# Altium footprint library Connector_Harwin.PcbLib: 102 footprints (part 6 of 7)
Each footprint in its own frame and in the unit in brackets; x right, y up, seen from the top. Pads: shape width x height; smd on the part's side, far side on the other; paste and mask are expansions set on the pad; w line width, h text height; cw(c..) or ccw(c..) is an arc to the next point about the centre after c.
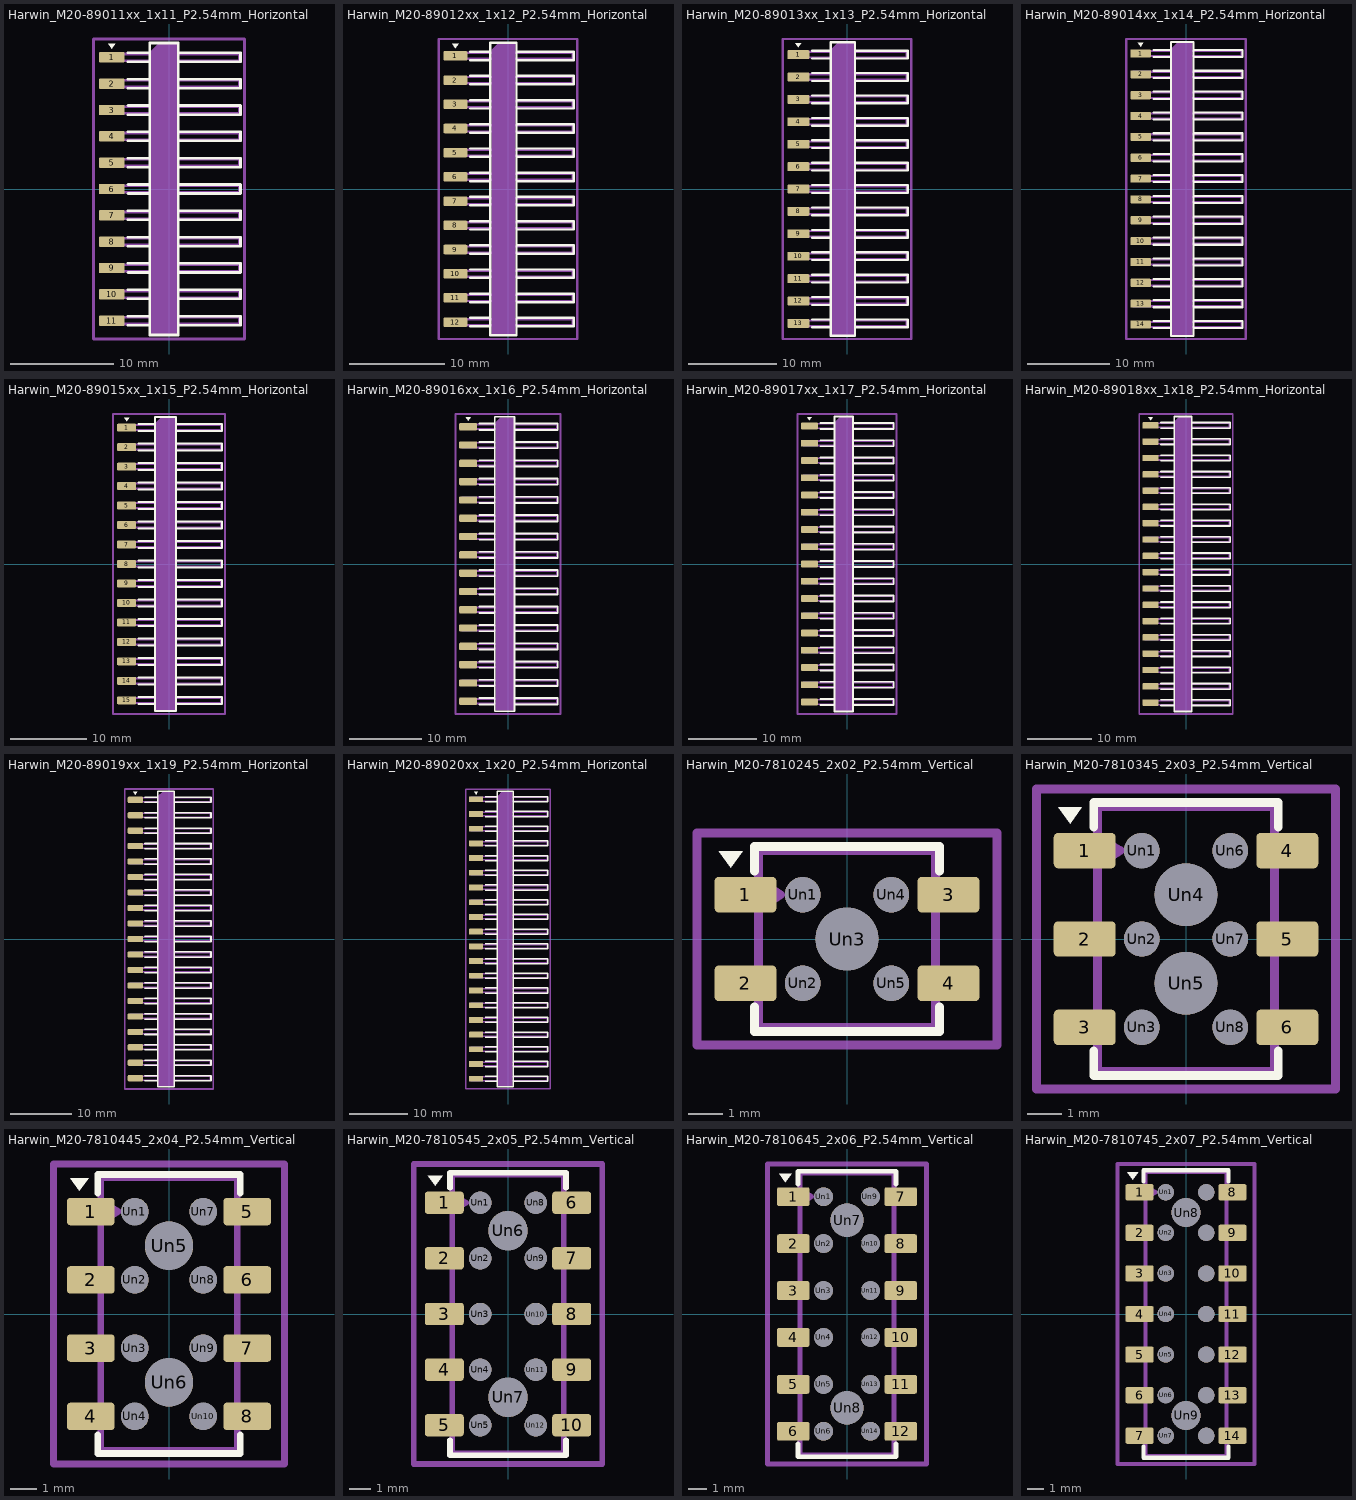
[diagram p5: the footprints below, top view; thin cyan lines are the x and y axes]

## Harwin_M20-89011xx_1x11_P2.54mm_Horizontal [mm]
pads (11):
  rrect25% 2.5x1 smd: 1(-5.525,12.7) 2(-5.525,10.16) 3(-5.525,7.62) 4(-5.525,5.08) 5(-5.525,2.54) 6(-5.525,0) 7(-5.525,-2.54) 8(-5.525,-5.08) 9(-5.525,-7.62) 10(-5.525,-10.16) 11(-5.525,-12.7)
F.SilkS:
  region: -5.525,13.52 -5.865,13.99 -5.185,13.99
  lines w0.254: -3.955,-13.14 -1.845,-13.14 ; -3.955,-12.26 -1.845,-12.26 ; -3.955,-10.6 -1.845,-10.6 ; -3.955,-9.72 -1.845,-9.72 ; -3.955,-8.06 -1.845,-8.06 ; -3.955,-7.18 -1.845,-7.18 ; -3.955,-5.52 -1.845,-5.52 ; -3.955,-4.64 -1.845,-4.64 ; -3.955,-2.98 -1.845,-2.98 ; -3.955,-2.1 -1.845,-2.1 ; -3.955,-0.44 -1.845,-0.44 ; -3.955,0.44 -1.845,0.44 ; -3.955,2.1 -1.845,2.1 ; -3.955,2.98 -1.845,2.98 ; -3.955,4.64 -1.845,4.64 ; -3.955,5.52 -1.845,5.52 ; -3.955,7.18 -1.845,7.18 ; -3.955,8.06 -1.845,8.06 ; -3.955,9.72 -1.845,9.72 ; -3.955,10.6 -1.845,10.6 ; -3.955,12.26 -1.845,12.26 ; -3.955,13.14 -1.845,13.14 ; 0.895,-13.14 6.895,-13.14 6.895,-12.26 0.895,-12.26 ; 0.895,-10.6 6.895,-10.6 6.895,-9.72 0.895,-9.72 ; 0.895,-8.06 6.895,-8.06 6.895,-7.18 0.895,-7.18 ; 0.895,-5.52 6.895,-5.52 6.895,-4.64 0.895,-4.64 ; 0.895,-2.98 6.895,-2.98 6.895,-2.1 0.895,-2.1 ; 0.895,-0.44 6.895,-0.44 6.895,0.44 0.895,0.44 ; 0.895,2.1 6.895,2.1 6.895,2.98 0.895,2.98 ; 0.895,4.64 6.895,4.64 6.895,5.52 0.895,5.52 ; 0.895,7.18 6.895,7.18 6.895,8.06 0.895,8.06 ; 0.895,9.72 6.895,9.72 6.895,10.6 0.895,10.6 ; -1.845,-14.09 0.895,-14.09 0.895,14.09 -1.845,14.09 -1.845,-14.09 ; 0.895,12.26 6.895,12.26 6.895,13.14 0.895,13.14 0.895,12.26
Top Assembly:
  region: 0.775,-13.97 -1.725,-13.97 -1.725,13.345 -1.1,13.97 0.775,13.97
  lines w0.254: -1.725,-13.02 -6.425,-13.02 -6.425,-12.38 -1.725,-12.38 ; -1.725,-10.48 -6.425,-10.48 -6.425,-9.84 -1.725,-9.84 ; -1.725,-7.94 -6.425,-7.94 -6.425,-7.3 -1.725,-7.3 ; -1.725,-5.4 -6.425,-5.4 -6.425,-4.76 -1.725,-4.76 ; -1.725,-2.86 -6.425,-2.86 -6.425,-2.22 -1.725,-2.22 ; -1.725,-0.32 -6.425,-0.32 -6.425,0.32 -1.725,0.32 ; -1.725,2.22 -6.425,2.22 -6.425,2.86 -1.725,2.86 ; -1.725,4.76 -6.425,4.76 -6.425,5.4 -1.725,5.4 ; -1.725,7.3 -6.425,7.3 -6.425,7.94 -1.725,7.94 ; -1.725,9.84 -6.425,9.84 -6.425,10.48 -1.725,10.48 ; -1.725,12.38 -6.425,12.38 -6.425,13.02 -1.725,13.02 ; 0.775,-13.02 6.775,-13.02 6.775,-12.38 0.775,-12.38 ; 0.775,-10.48 6.775,-10.48 6.775,-9.84 0.775,-9.84 ; 0.775,-7.94 6.775,-7.94 6.775,-7.3 0.775,-7.3 ; 0.775,-5.4 6.775,-5.4 6.775,-4.76 0.775,-4.76 ; 0.775,-2.86 6.775,-2.86 6.775,-2.22 0.775,-2.22 ; 0.775,-0.32 6.775,-0.32 6.775,0.32 0.775,0.32 ; 0.775,2.22 6.775,2.22 6.775,2.86 0.775,2.86 ; 0.775,4.76 6.775,4.76 6.775,5.4 0.775,5.4 ; 0.775,7.3 6.775,7.3 6.775,7.94 0.775,7.94 ; 0.775,9.84 6.775,9.84 6.775,10.48 0.775,10.48 ; 0.775,12.38 6.775,12.38 6.775,13.02 0.775,13.02
  text "'.Designator'" at 0.36,-4.047 h1
Top Courtyard:
  lines w0.254: -7.28,-14.47 7.28,-14.47 7.28,14.47 -7.28,14.47 -7.28,-14.47
Top Designator:
  text ".Designator" at -7.618,-0.508 h1.52

## Harwin_M20-89012xx_1x12_P2.54mm_Horizontal [mm]
pads (12):
  rrect25% 2.5x1 smd: 1(-5.525,13.97) 2(-5.525,11.43) 3(-5.525,8.89) 4(-5.525,6.35) 5(-5.525,3.81) 6(-5.525,1.27) 7(-5.525,-1.27) 8(-5.525,-3.81) 9(-5.525,-6.35) 10(-5.525,-8.89) 11(-5.525,-11.43) 12(-5.525,-13.97)
F.SilkS:
  region: -5.525,14.79 -5.865,15.26 -5.185,15.26
  lines w0.254: -3.955,-14.41 -1.845,-14.41 ; -3.955,-13.53 -1.845,-13.53 ; -3.955,-11.87 -1.845,-11.87 ; -3.955,-10.99 -1.845,-10.99 ; -3.955,-9.33 -1.845,-9.33 ; -3.955,-8.45 -1.845,-8.45 ; -3.955,-6.79 -1.845,-6.79 ; -3.955,-5.91 -1.845,-5.91 ; -3.955,-4.25 -1.845,-4.25 ; -3.955,-3.37 -1.845,-3.37 ; -3.955,-1.71 -1.845,-1.71 ; -3.955,-0.83 -1.845,-0.83 ; -3.955,0.83 -1.845,0.83 ; -3.955,1.71 -1.845,1.71 ; -3.955,3.37 -1.845,3.37 ; -3.955,4.25 -1.845,4.25 ; -3.955,5.91 -1.845,5.91 ; -3.955,6.79 -1.845,6.79 ; -3.955,8.45 -1.845,8.45 ; -3.955,9.33 -1.845,9.33 ; -3.955,10.99 -1.845,10.99 ; -3.955,11.87 -1.845,11.87 ; -3.955,13.53 -1.845,13.53 ; -3.955,14.41 -1.845,14.41 ; 0.895,-14.41 6.895,-14.41 6.895,-13.53 0.895,-13.53 ; 0.895,-11.87 6.895,-11.87 6.895,-10.99 0.895,-10.99 ; 0.895,-9.33 6.895,-9.33 6.895,-8.45 0.895,-8.45 ; 0.895,-6.79 6.895,-6.79 6.895,-5.91 0.895,-5.91 ; 0.895,-4.25 6.895,-4.25 6.895,-3.37 0.895,-3.37 ; 0.895,-1.71 6.895,-1.71 6.895,-0.83 0.895,-0.83 ; 0.895,0.83 6.895,0.83 6.895,1.71 0.895,1.71 ; 0.895,3.37 6.895,3.37 6.895,4.25 0.895,4.25 ; 0.895,5.91 6.895,5.91 6.895,6.79 0.895,6.79 ; 0.895,8.45 6.895,8.45 6.895,9.33 0.895,9.33 ; 0.895,10.99 6.895,10.99 6.895,11.87 0.895,11.87 ; -1.845,-15.36 0.895,-15.36 0.895,15.36 -1.845,15.36 -1.845,-15.36 ; 0.895,13.53 6.895,13.53 6.895,14.41 0.895,14.41 0.895,13.53
Top Assembly:
  region: 0.775,-15.24 -1.725,-15.24 -1.725,14.615 -1.1,15.24 0.775,15.24
  lines w0.254: -1.725,-14.29 -6.425,-14.29 -6.425,-13.65 -1.725,-13.65 ; -1.725,-11.75 -6.425,-11.75 -6.425,-11.11 -1.725,-11.11 ; -1.725,-9.21 -6.425,-9.21 -6.425,-8.57 -1.725,-8.57 ; -1.725,-6.67 -6.425,-6.67 -6.425,-6.03 -1.725,-6.03 ; -1.725,-4.13 -6.425,-4.13 -6.425,-3.49 -1.725,-3.49 ; -1.725,-1.59 -6.425,-1.59 -6.425,-0.95 -1.725,-0.95 ; -1.725,0.95 -6.425,0.95 -6.425,1.59 -1.725,1.59 ; -1.725,3.49 -6.425,3.49 -6.425,4.13 -1.725,4.13 ; -1.725,6.03 -6.425,6.03 -6.425,6.67 -1.725,6.67 ; -1.725,8.57 -6.425,8.57 -6.425,9.21 -1.725,9.21 ; -1.725,11.11 -6.425,11.11 -6.425,11.75 -1.725,11.75 ; -1.725,13.65 -6.425,13.65 -6.425,14.29 -1.725,14.29 ; 0.775,-14.29 6.775,-14.29 6.775,-13.65 0.775,-13.65 ; 0.775,-11.75 6.775,-11.75 6.775,-11.11 0.775,-11.11 ; 0.775,-9.21 6.775,-9.21 6.775,-8.57 0.775,-8.57 ; 0.775,-6.67 6.775,-6.67 6.775,-6.03 0.775,-6.03 ; 0.775,-4.13 6.775,-4.13 6.775,-3.49 0.775,-3.49 ; 0.775,-1.59 6.775,-1.59 6.775,-0.95 0.775,-0.95 ; 0.775,0.95 6.775,0.95 6.775,1.59 0.775,1.59 ; 0.775,3.49 6.775,3.49 6.775,4.13 0.775,4.13 ; 0.775,6.03 6.775,6.03 6.775,6.67 0.775,6.67 ; 0.775,8.57 6.775,8.57 6.775,9.21 0.775,9.21 ; 0.775,11.11 6.775,11.11 6.775,11.75 0.775,11.75 ; 0.775,13.65 6.775,13.65 6.775,14.29 0.775,14.29
  text "'.Designator'" at 0.36,-4.047 h1
Top Courtyard:
  lines w0.254: -7.28,-15.74 7.28,-15.74 7.28,15.74 -7.28,15.74 -7.28,-15.74
Top Designator:
  text ".Designator" at -7.618,-0.508 h1.52

## Harwin_M20-89013xx_1x13_P2.54mm_Horizontal [mm]
pads (13):
  rrect25% 2.5x1 smd: 1(-5.525,15.24) 2(-5.525,12.7) 3(-5.525,10.16) 4(-5.525,7.62) 5(-5.525,5.08) 6(-5.525,2.54) 7(-5.525,0) 8(-5.525,-2.54) 9(-5.525,-5.08) 10(-5.525,-7.62) 11(-5.525,-10.16) 12(-5.525,-12.7) 13(-5.525,-15.24)
F.SilkS:
  region: -5.525,16.06 -5.865,16.53 -5.185,16.53
  lines w0.254: -3.955,-15.68 -1.845,-15.68 ; -3.955,-14.8 -1.845,-14.8 ; -3.955,-13.14 -1.845,-13.14 ; -3.955,-12.26 -1.845,-12.26 ; -3.955,-10.6 -1.845,-10.6 ; -3.955,-9.72 -1.845,-9.72 ; -3.955,-8.06 -1.845,-8.06 ; -3.955,-7.18 -1.845,-7.18 ; -3.955,-5.52 -1.845,-5.52 ; -3.955,-4.64 -1.845,-4.64 ; -3.955,-2.98 -1.845,-2.98 ; -3.955,-2.1 -1.845,-2.1 ; -3.955,-0.44 -1.845,-0.44 ; -3.955,0.44 -1.845,0.44 ; -3.955,2.1 -1.845,2.1 ; -3.955,2.98 -1.845,2.98 ; -3.955,4.64 -1.845,4.64 ; -3.955,5.52 -1.845,5.52 ; -3.955,7.18 -1.845,7.18 ; -3.955,8.06 -1.845,8.06 ; -3.955,9.72 -1.845,9.72 ; -3.955,10.6 -1.845,10.6 ; -3.955,12.26 -1.845,12.26 ; -3.955,13.14 -1.845,13.14 ; -3.955,14.8 -1.845,14.8 ; -3.955,15.68 -1.845,15.68 ; 0.895,-15.68 6.895,-15.68 6.895,-14.8 0.895,-14.8 ; 0.895,-13.14 6.895,-13.14 6.895,-12.26 0.895,-12.26 ; 0.895,-10.6 6.895,-10.6 6.895,-9.72 0.895,-9.72 ; 0.895,-8.06 6.895,-8.06 6.895,-7.18 0.895,-7.18 ; 0.895,-5.52 6.895,-5.52 6.895,-4.64 0.895,-4.64 ; 0.895,-2.98 6.895,-2.98 6.895,-2.1 0.895,-2.1 ; 0.895,-0.44 6.895,-0.44 6.895,0.44 0.895,0.44 ; 0.895,2.1 6.895,2.1 6.895,2.98 0.895,2.98 ; 0.895,4.64 6.895,4.64 6.895,5.52 0.895,5.52 ; 0.895,7.18 6.895,7.18 6.895,8.06 0.895,8.06 ; 0.895,9.72 6.895,9.72 6.895,10.6 0.895,10.6 ; 0.895,12.26 6.895,12.26 6.895,13.14 0.895,13.14 ; -1.845,-16.63 0.895,-16.63 0.895,16.63 -1.845,16.63 -1.845,-16.63 ; 0.895,14.8 6.895,14.8 6.895,15.68 0.895,15.68 0.895,14.8
Top Assembly:
  region: 0.775,-16.51 -1.725,-16.51 -1.725,15.885 -1.1,16.51 0.775,16.51
  lines w0.254: -1.725,-15.56 -6.425,-15.56 -6.425,-14.92 -1.725,-14.92 ; -1.725,-13.02 -6.425,-13.02 -6.425,-12.38 -1.725,-12.38 ; -1.725,-10.48 -6.425,-10.48 -6.425,-9.84 -1.725,-9.84 ; -1.725,-7.94 -6.425,-7.94 -6.425,-7.3 -1.725,-7.3 ; -1.725,-5.4 -6.425,-5.4 -6.425,-4.76 -1.725,-4.76 ; -1.725,-2.86 -6.425,-2.86 -6.425,-2.22 -1.725,-2.22 ; -1.725,-0.32 -6.425,-0.32 -6.425,0.32 -1.725,0.32 ; -1.725,2.22 -6.425,2.22 -6.425,2.86 -1.725,2.86 ; -1.725,4.76 -6.425,4.76 -6.425,5.4 -1.725,5.4 ; -1.725,7.3 -6.425,7.3 -6.425,7.94 -1.725,7.94 ; -1.725,9.84 -6.425,9.84 -6.425,10.48 -1.725,10.48 ; -1.725,12.38 -6.425,12.38 -6.425,13.02 -1.725,13.02 ; -1.725,14.92 -6.425,14.92 -6.425,15.56 -1.725,15.56 ; 0.775,-15.56 6.775,-15.56 6.775,-14.92 0.775,-14.92 ; 0.775,-13.02 6.775,-13.02 6.775,-12.38 0.775,-12.38 ; 0.775,-10.48 6.775,-10.48 6.775,-9.84 0.775,-9.84 ; 0.775,-7.94 6.775,-7.94 6.775,-7.3 0.775,-7.3 ; 0.775,-5.4 6.775,-5.4 6.775,-4.76 0.775,-4.76 ; 0.775,-2.86 6.775,-2.86 6.775,-2.22 0.775,-2.22 ; 0.775,-0.32 6.775,-0.32 6.775,0.32 0.775,0.32 ; 0.775,2.22 6.775,2.22 6.775,2.86 0.775,2.86 ; 0.775,4.76 6.775,4.76 6.775,5.4 0.775,5.4 ; 0.775,7.3 6.775,7.3 6.775,7.94 0.775,7.94 ; 0.775,9.84 6.775,9.84 6.775,10.48 0.775,10.48 ; 0.775,12.38 6.775,12.38 6.775,13.02 0.775,13.02 ; 0.775,14.92 6.775,14.92 6.775,15.56 0.775,15.56
  text "'.Designator'" at 0.36,-4.047 h1
Top Courtyard:
  lines w0.254: -7.28,-17.01 7.28,-17.01 7.28,17.01 -7.28,17.01 -7.28,-17.01
Top Designator:
  text ".Designator" at -7.618,-0.508 h1.52

## Harwin_M20-89014xx_1x14_P2.54mm_Horizontal [mm]
pads (14):
  rrect25% 2.5x1 smd: 1(-5.525,16.51) 2(-5.525,13.97) 3(-5.525,11.43) 4(-5.525,8.89) 5(-5.525,6.35) 6(-5.525,3.81) 7(-5.525,1.27) 8(-5.525,-1.27) 9(-5.525,-3.81) 10(-5.525,-6.35) 11(-5.525,-8.89) 12(-5.525,-11.43) 13(-5.525,-13.97) 14(-5.525,-16.51)
F.SilkS:
  region: -5.525,17.33 -5.865,17.8 -5.185,17.8
  lines w0.254: -3.955,-16.95 -1.845,-16.95 ; -3.955,-16.07 -1.845,-16.07 ; -3.955,-14.41 -1.845,-14.41 ; -3.955,-13.53 -1.845,-13.53 ; -3.955,-11.87 -1.845,-11.87 ; -3.955,-10.99 -1.845,-10.99 ; -3.955,-9.33 -1.845,-9.33 ; -3.955,-8.45 -1.845,-8.45 ; -3.955,-6.79 -1.845,-6.79 ; -3.955,-5.91 -1.845,-5.91 ; -3.955,-4.25 -1.845,-4.25 ; -3.955,-3.37 -1.845,-3.37 ; -3.955,-1.71 -1.845,-1.71 ; -3.955,-0.83 -1.845,-0.83 ; -3.955,0.83 -1.845,0.83 ; -3.955,1.71 -1.845,1.71 ; -3.955,3.37 -1.845,3.37 ; -3.955,4.25 -1.845,4.25 ; -3.955,5.91 -1.845,5.91 ; -3.955,6.79 -1.845,6.79 ; -3.955,8.45 -1.845,8.45 ; -3.955,9.33 -1.845,9.33 ; -3.955,10.99 -1.845,10.99 ; -3.955,11.87 -1.845,11.87 ; -3.955,13.53 -1.845,13.53 ; -3.955,14.41 -1.845,14.41 ; -3.955,16.07 -1.845,16.07 ; -3.955,16.95 -1.845,16.95 ; 0.895,-16.95 6.895,-16.95 6.895,-16.07 0.895,-16.07 ; 0.895,-14.41 6.895,-14.41 6.895,-13.53 0.895,-13.53 ; 0.895,-11.87 6.895,-11.87 6.895,-10.99 0.895,-10.99 ; 0.895,-9.33 6.895,-9.33 6.895,-8.45 0.895,-8.45 ; 0.895,-6.79 6.895,-6.79 6.895,-5.91 0.895,-5.91 ; 0.895,-4.25 6.895,-4.25 6.895,-3.37 0.895,-3.37 ; 0.895,-1.71 6.895,-1.71 6.895,-0.83 0.895,-0.83 ; 0.895,0.83 6.895,0.83 6.895,1.71 0.895,1.71 ; 0.895,3.37 6.895,3.37 6.895,4.25 0.895,4.25 ; 0.895,5.91 6.895,5.91 6.895,6.79 0.895,6.79 ; 0.895,8.45 6.895,8.45 6.895,9.33 0.895,9.33 ; 0.895,10.99 6.895,10.99 6.895,11.87 0.895,11.87 ; 0.895,13.53 6.895,13.53 6.895,14.41 0.895,14.41 ; -1.845,-17.9 0.895,-17.9 0.895,17.9 -1.845,17.9 -1.845,-17.9 ; 0.895,16.07 6.895,16.07 6.895,16.95 0.895,16.95 0.895,16.07
Top Assembly:
  region: 0.775,-17.78 -1.725,-17.78 -1.725,17.155 -1.1,17.78 0.775,17.78
  lines w0.254: -1.725,-16.83 -6.425,-16.83 -6.425,-16.19 -1.725,-16.19 ; -1.725,-14.29 -6.425,-14.29 -6.425,-13.65 -1.725,-13.65 ; -1.725,-11.75 -6.425,-11.75 -6.425,-11.11 -1.725,-11.11 ; -1.725,-9.21 -6.425,-9.21 -6.425,-8.57 -1.725,-8.57 ; -1.725,-6.67 -6.425,-6.67 -6.425,-6.03 -1.725,-6.03 ; -1.725,-4.13 -6.425,-4.13 -6.425,-3.49 -1.725,-3.49 ; -1.725,-1.59 -6.425,-1.59 -6.425,-0.95 -1.725,-0.95 ; -1.725,0.95 -6.425,0.95 -6.425,1.59 -1.725,1.59 ; -1.725,3.49 -6.425,3.49 -6.425,4.13 -1.725,4.13 ; -1.725,6.03 -6.425,6.03 -6.425,6.67 -1.725,6.67 ; -1.725,8.57 -6.425,8.57 -6.425,9.21 -1.725,9.21 ; -1.725,11.11 -6.425,11.11 -6.425,11.75 -1.725,11.75 ; -1.725,13.65 -6.425,13.65 -6.425,14.29 -1.725,14.29 ; -1.725,16.19 -6.425,16.19 -6.425,16.83 -1.725,16.83 ; 0.775,-16.83 6.775,-16.83 6.775,-16.19 0.775,-16.19 ; 0.775,-14.29 6.775,-14.29 6.775,-13.65 0.775,-13.65 ; 0.775,-11.75 6.775,-11.75 6.775,-11.11 0.775,-11.11 ; 0.775,-9.21 6.775,-9.21 6.775,-8.57 0.775,-8.57 ; 0.775,-6.67 6.775,-6.67 6.775,-6.03 0.775,-6.03 ; 0.775,-4.13 6.775,-4.13 6.775,-3.49 0.775,-3.49 ; 0.775,-1.59 6.775,-1.59 6.775,-0.95 0.775,-0.95 ; 0.775,0.95 6.775,0.95 6.775,1.59 0.775,1.59 ; 0.775,3.49 6.775,3.49 6.775,4.13 0.775,4.13 ; 0.775,6.03 6.775,6.03 6.775,6.67 0.775,6.67 ; 0.775,8.57 6.775,8.57 6.775,9.21 0.775,9.21 ; 0.775,11.11 6.775,11.11 6.775,11.75 0.775,11.75 ; 0.775,13.65 6.775,13.65 6.775,14.29 0.775,14.29 ; 0.775,16.19 6.775,16.19 6.775,16.83 0.775,16.83
  text "'.Designator'" at 0.36,-4.047 h1
Top Courtyard:
  lines w0.254: -7.28,-18.28 7.28,-18.28 7.28,18.28 -7.28,18.28 -7.28,-18.28
Top Designator:
  text ".Designator" at -7.618,-0.508 h1.52

## Harwin_M20-89015xx_1x15_P2.54mm_Horizontal [mm]
pads (15):
  rrect25% 2.5x1 smd: 1(-5.525,17.78) 2(-5.525,15.24) 3(-5.525,12.7) 4(-5.525,10.16) 5(-5.525,7.62) 6(-5.525,5.08) 7(-5.525,2.54) 8(-5.525,0) 9(-5.525,-2.54) 10(-5.525,-5.08) 11(-5.525,-7.62) 12(-5.525,-10.16) 13(-5.525,-12.7) 14(-5.525,-15.24) 15(-5.525,-17.78)
F.SilkS:
  region: -5.525,18.6 -5.865,19.07 -5.185,19.07
  lines w0.254: -3.955,-18.22 -1.845,-18.22 ; -3.955,-17.34 -1.845,-17.34 ; -3.955,-15.68 -1.845,-15.68 ; -3.955,-14.8 -1.845,-14.8 ; -3.955,-13.14 -1.845,-13.14 ; -3.955,-12.26 -1.845,-12.26 ; -3.955,-10.6 -1.845,-10.6 ; -3.955,-9.72 -1.845,-9.72 ; -3.955,-8.06 -1.845,-8.06 ; -3.955,-7.18 -1.845,-7.18 ; -3.955,-5.52 -1.845,-5.52 ; -3.955,-4.64 -1.845,-4.64 ; -3.955,-2.98 -1.845,-2.98 ; -3.955,-2.1 -1.845,-2.1 ; -3.955,-0.44 -1.845,-0.44 ; -3.955,0.44 -1.845,0.44 ; -3.955,2.1 -1.845,2.1 ; -3.955,2.98 -1.845,2.98 ; -3.955,4.64 -1.845,4.64 ; -3.955,5.52 -1.845,5.52 ; -3.955,7.18 -1.845,7.18 ; -3.955,8.06 -1.845,8.06 ; -3.955,9.72 -1.845,9.72 ; -3.955,10.6 -1.845,10.6 ; -3.955,12.26 -1.845,12.26 ; -3.955,13.14 -1.845,13.14 ; -3.955,14.8 -1.845,14.8 ; -3.955,15.68 -1.845,15.68 ; -3.955,17.34 -1.845,17.34 ; -3.955,18.22 -1.845,18.22 ; 0.895,-18.22 6.895,-18.22 6.895,-17.34 0.895,-17.34 ; 0.895,-15.68 6.895,-15.68 6.895,-14.8 0.895,-14.8 ; 0.895,-13.14 6.895,-13.14 6.895,-12.26 0.895,-12.26 ; 0.895,-10.6 6.895,-10.6 6.895,-9.72 0.895,-9.72 ; 0.895,-8.06 6.895,-8.06 6.895,-7.18 0.895,-7.18 ; 0.895,-5.52 6.895,-5.52 6.895,-4.64 0.895,-4.64 ; 0.895,-2.98 6.895,-2.98 6.895,-2.1 0.895,-2.1 ; 0.895,-0.44 6.895,-0.44 6.895,0.44 0.895,0.44 ; 0.895,2.1 6.895,2.1 6.895,2.98 0.895,2.98 ; 0.895,4.64 6.895,4.64 6.895,5.52 0.895,5.52 ; 0.895,7.18 6.895,7.18 6.895,8.06 0.895,8.06 ; 0.895,9.72 6.895,9.72 6.895,10.6 0.895,10.6 ; 0.895,12.26 6.895,12.26 6.895,13.14 0.895,13.14 ; 0.895,14.8 6.895,14.8 6.895,15.68 0.895,15.68 ; -1.845,-19.17 0.895,-19.17 0.895,19.17 -1.845,19.17 -1.845,-19.17 ; 0.895,17.34 6.895,17.34 6.895,18.22 0.895,18.22 0.895,17.34
Top Assembly:
  region: 0.775,-19.05 -1.725,-19.05 -1.725,18.425 -1.1,19.05 0.775,19.05
  lines w0.254: -1.725,-18.1 -6.425,-18.1 -6.425,-17.46 -1.725,-17.46 ; -1.725,-15.56 -6.425,-15.56 -6.425,-14.92 -1.725,-14.92 ; -1.725,-13.02 -6.425,-13.02 -6.425,-12.38 -1.725,-12.38 ; -1.725,-10.48 -6.425,-10.48 -6.425,-9.84 -1.725,-9.84 ; -1.725,-7.94 -6.425,-7.94 -6.425,-7.3 -1.725,-7.3 ; -1.725,-5.4 -6.425,-5.4 -6.425,-4.76 -1.725,-4.76 ; -1.725,-2.86 -6.425,-2.86 -6.425,-2.22 -1.725,-2.22 ; -1.725,-0.32 -6.425,-0.32 -6.425,0.32 -1.725,0.32 ; -1.725,2.22 -6.425,2.22 -6.425,2.86 -1.725,2.86 ; -1.725,4.76 -6.425,4.76 -6.425,5.4 -1.725,5.4 ; -1.725,7.3 -6.425,7.3 -6.425,7.94 -1.725,7.94 ; -1.725,9.84 -6.425,9.84 -6.425,10.48 -1.725,10.48 ; -1.725,12.38 -6.425,12.38 -6.425,13.02 -1.725,13.02 ; -1.725,14.92 -6.425,14.92 -6.425,15.56 -1.725,15.56 ; -1.725,17.46 -6.425,17.46 -6.425,18.1 -1.725,18.1 ; 0.775,-18.1 6.775,-18.1 6.775,-17.46 0.775,-17.46 ; 0.775,-15.56 6.775,-15.56 6.775,-14.92 0.775,-14.92 ; 0.775,-13.02 6.775,-13.02 6.775,-12.38 0.775,-12.38 ; 0.775,-10.48 6.775,-10.48 6.775,-9.84 0.775,-9.84 ; 0.775,-7.94 6.775,-7.94 6.775,-7.3 0.775,-7.3 ; 0.775,-5.4 6.775,-5.4 6.775,-4.76 0.775,-4.76 ; 0.775,-2.86 6.775,-2.86 6.775,-2.22 0.775,-2.22 ; 0.775,-0.32 6.775,-0.32 6.775,0.32 0.775,0.32 ; 0.775,2.22 6.775,2.22 6.775,2.86 0.775,2.86 ; 0.775,4.76 6.775,4.76 6.775,5.4 0.775,5.4 ; 0.775,7.3 6.775,7.3 6.775,7.94 0.775,7.94 ; 0.775,9.84 6.775,9.84 6.775,10.48 0.775,10.48 ; 0.775,12.38 6.775,12.38 6.775,13.02 0.775,13.02 ; 0.775,14.92 6.775,14.92 6.775,15.56 0.775,15.56 ; 0.775,17.46 6.775,17.46 6.775,18.1 0.775,18.1
  text "'.Designator'" at 0.36,-4.047 h1
Top Courtyard:
  lines w0.254: -7.28,-19.55 7.28,-19.55 7.28,19.55 -7.28,19.55 -7.28,-19.55
Top Designator:
  text ".Designator" at -7.618,-0.508 h1.52

## Harwin_M20-89016xx_1x16_P2.54mm_Horizontal [mm]
pads (16):
  rrect25% 2.5x1 smd: 1(-5.525,19.05) 2(-5.525,16.51) 3(-5.525,13.97) 4(-5.525,11.43) 5(-5.525,8.89) 6(-5.525,6.35) 7(-5.525,3.81) 8(-5.525,1.27) 9(-5.525,-1.27) 10(-5.525,-3.81) 11(-5.525,-6.35) 12(-5.525,-8.89) 13(-5.525,-11.43) 14(-5.525,-13.97) 15(-5.525,-16.51) 16(-5.525,-19.05)
F.SilkS:
  region: -5.525,19.87 -5.865,20.34 -5.185,20.34
  lines w0.254: -3.955,-19.49 -1.845,-19.49 ; -3.955,-18.61 -1.845,-18.61 ; -3.955,-16.95 -1.845,-16.95 ; -3.955,-16.07 -1.845,-16.07 ; -3.955,-14.41 -1.845,-14.41 ; -3.955,-13.53 -1.845,-13.53 ; -3.955,-11.87 -1.845,-11.87 ; -3.955,-10.99 -1.845,-10.99 ; -3.955,-9.33 -1.845,-9.33 ; -3.955,-8.45 -1.845,-8.45 ; -3.955,-6.79 -1.845,-6.79 ; -3.955,-5.91 -1.845,-5.91 ; -3.955,-4.25 -1.845,-4.25 ; -3.955,-3.37 -1.845,-3.37 ; -3.955,-1.71 -1.845,-1.71 ; -3.955,-0.83 -1.845,-0.83 ; -3.955,0.83 -1.845,0.83 ; -3.955,1.71 -1.845,1.71 ; -3.955,3.37 -1.845,3.37 ; -3.955,4.25 -1.845,4.25 ; -3.955,5.91 -1.845,5.91 ; -3.955,6.79 -1.845,6.79 ; -3.955,8.45 -1.845,8.45 ; -3.955,9.33 -1.845,9.33 ; -3.955,10.99 -1.845,10.99 ; -3.955,11.87 -1.845,11.87 ; -3.955,13.53 -1.845,13.53 ; -3.955,14.41 -1.845,14.41 ; -3.955,16.07 -1.845,16.07 ; -3.955,16.95 -1.845,16.95 ; -3.955,18.61 -1.845,18.61 ; -3.955,19.49 -1.845,19.49 ; 0.895,-19.49 6.895,-19.49 6.895,-18.61 0.895,-18.61 ; 0.895,-16.95 6.895,-16.95 6.895,-16.07 0.895,-16.07 ; 0.895,-14.41 6.895,-14.41 6.895,-13.53 0.895,-13.53 ; 0.895,-11.87 6.895,-11.87 6.895,-10.99 0.895,-10.99 ; 0.895,-9.33 6.895,-9.33 6.895,-8.45 0.895,-8.45 ; 0.895,-6.79 6.895,-6.79 6.895,-5.91 0.895,-5.91 ; 0.895,-4.25 6.895,-4.25 6.895,-3.37 0.895,-3.37 ; 0.895,-1.71 6.895,-1.71 6.895,-0.83 0.895,-0.83 ; 0.895,0.83 6.895,0.83 6.895,1.71 0.895,1.71 ; 0.895,3.37 6.895,3.37 6.895,4.25 0.895,4.25 ; 0.895,5.91 6.895,5.91 6.895,6.79 0.895,6.79 ; 0.895,8.45 6.895,8.45 6.895,9.33 0.895,9.33 ; 0.895,10.99 6.895,10.99 6.895,11.87 0.895,11.87 ; 0.895,13.53 6.895,13.53 6.895,14.41 0.895,14.41 ; 0.895,16.07 6.895,16.07 6.895,16.95 0.895,16.95 ; -1.845,-20.44 0.895,-20.44 0.895,20.44 -1.845,20.44 -1.845,-20.44 ; 0.895,18.61 6.895,18.61 6.895,19.49 0.895,19.49 0.895,18.61
Top Assembly:
  region: 0.775,-20.32 -1.725,-20.32 -1.725,19.695 -1.1,20.32 0.775,20.32
  lines w0.254: -1.725,-19.37 -6.425,-19.37 -6.425,-18.73 -1.725,-18.73 ; -1.725,-16.83 -6.425,-16.83 -6.425,-16.19 -1.725,-16.19 ; -1.725,-14.29 -6.425,-14.29 -6.425,-13.65 -1.725,-13.65 ; -1.725,-11.75 -6.425,-11.75 -6.425,-11.11 -1.725,-11.11 ; -1.725,-9.21 -6.425,-9.21 -6.425,-8.57 -1.725,-8.57 ; -1.725,-6.67 -6.425,-6.67 -6.425,-6.03 -1.725,-6.03 ; -1.725,-4.13 -6.425,-4.13 -6.425,-3.49 -1.725,-3.49 ; -1.725,-1.59 -6.425,-1.59 -6.425,-0.95 -1.725,-0.95 ; -1.725,0.95 -6.425,0.95 -6.425,1.59 -1.725,1.59 ; -1.725,3.49 -6.425,3.49 -6.425,4.13 -1.725,4.13 ; -1.725,6.03 -6.425,6.03 -6.425,6.67 -1.725,6.67 ; -1.725,8.57 -6.425,8.57 -6.425,9.21 -1.725,9.21 ; -1.725,11.11 -6.425,11.11 -6.425,11.75 -1.725,11.75 ; -1.725,13.65 -6.425,13.65 -6.425,14.29 -1.725,14.29 ; -1.725,16.19 -6.425,16.19 -6.425,16.83 -1.725,16.83 ; -1.725,18.73 -6.425,18.73 -6.425,19.37 -1.725,19.37 ; 0.775,-19.37 6.775,-19.37 6.775,-18.73 0.775,-18.73 ; 0.775,-16.83 6.775,-16.83 6.775,-16.19 0.775,-16.19 ; 0.775,-14.29 6.775,-14.29 6.775,-13.65 0.775,-13.65 ; 0.775,-11.75 6.775,-11.75 6.775,-11.11 0.775,-11.11 ; 0.775,-9.21 6.775,-9.21 6.775,-8.57 0.775,-8.57 ; 0.775,-6.67 6.775,-6.67 6.775,-6.03 0.775,-6.03 ; 0.775,-4.13 6.775,-4.13 6.775,-3.49 0.775,-3.49 ; 0.775,-1.59 6.775,-1.59 6.775,-0.95 0.775,-0.95 ; 0.775,0.95 6.775,0.95 6.775,1.59 0.775,1.59 ; 0.775,3.49 6.775,3.49 6.775,4.13 0.775,4.13 ; 0.775,6.03 6.775,6.03 6.775,6.67 0.775,6.67 ; 0.775,8.57 6.775,8.57 6.775,9.21 0.775,9.21 ; 0.775,11.11 6.775,11.11 6.775,11.75 0.775,11.75 ; 0.775,13.65 6.775,13.65 6.775,14.29 0.775,14.29 ; 0.775,16.19 6.775,16.19 6.775,16.83 0.775,16.83 ; 0.775,18.73 6.775,18.73 6.775,19.37 0.775,19.37
  text "'.Designator'" at 0.36,-4.047 h1
Top Courtyard:
  lines w0.254: -7.28,-20.82 7.28,-20.82 7.28,20.82 -7.28,20.82 -7.28,-20.82
Top Designator:
  text ".Designator" at -7.618,-0.508 h1.52

## Harwin_M20-89017xx_1x17_P2.54mm_Horizontal [mm]
pads (17):
  rrect25% 2.5x1 smd: 1(-5.525,20.32) 2(-5.525,17.78) 3(-5.525,15.24) 4(-5.525,12.7) 5(-5.525,10.16) 6(-5.525,7.62) 7(-5.525,5.08) 8(-5.525,2.54) 9(-5.525,0) 10(-5.525,-2.54) 11(-5.525,-5.08) 12(-5.525,-7.62) 13(-5.525,-10.16) 14(-5.525,-12.7) 15(-5.525,-15.24) 16(-5.525,-17.78) 17(-5.525,-20.32)
F.SilkS:
  region: -5.525,21.14 -5.865,21.61 -5.185,21.61
  lines w0.254: -3.955,-20.76 -1.845,-20.76 ; -3.955,-19.88 -1.845,-19.88 ; -3.955,-18.22 -1.845,-18.22 ; -3.955,-17.34 -1.845,-17.34 ; -3.955,-15.68 -1.845,-15.68 ; -3.955,-14.8 -1.845,-14.8 ; -3.955,-13.14 -1.845,-13.14 ; -3.955,-12.26 -1.845,-12.26 ; -3.955,-10.6 -1.845,-10.6 ; -3.955,-9.72 -1.845,-9.72 ; -3.955,-8.06 -1.845,-8.06 ; -3.955,-7.18 -1.845,-7.18 ; -3.955,-5.52 -1.845,-5.52 ; -3.955,-4.64 -1.845,-4.64 ; -3.955,-2.98 -1.845,-2.98 ; -3.955,-2.1 -1.845,-2.1 ; -3.955,-0.44 -1.845,-0.44 ; -3.955,0.44 -1.845,0.44 ; -3.955,2.1 -1.845,2.1 ; -3.955,2.98 -1.845,2.98 ; -3.955,4.64 -1.845,4.64 ; -3.955,5.52 -1.845,5.52 ; -3.955,7.18 -1.845,7.18 ; -3.955,8.06 -1.845,8.06 ; -3.955,9.72 -1.845,9.72 ; -3.955,10.6 -1.845,10.6 ; -3.955,12.26 -1.845,12.26 ; -3.955,13.14 -1.845,13.14 ; -3.955,14.8 -1.845,14.8 ; -3.955,15.68 -1.845,15.68 ; -3.955,17.34 -1.845,17.34 ; -3.955,18.22 -1.845,18.22 ; -3.955,19.88 -1.845,19.88 ; -3.955,20.76 -1.845,20.76 ; 0.895,-20.76 6.895,-20.76 6.895,-19.88 0.895,-19.88 ; 0.895,-18.22 6.895,-18.22 6.895,-17.34 0.895,-17.34 ; 0.895,-15.68 6.895,-15.68 6.895,-14.8 0.895,-14.8 ; 0.895,-13.14 6.895,-13.14 6.895,-12.26 0.895,-12.26 ; 0.895,-10.6 6.895,-10.6 6.895,-9.72 0.895,-9.72 ; 0.895,-8.06 6.895,-8.06 6.895,-7.18 0.895,-7.18 ; 0.895,-5.52 6.895,-5.52 6.895,-4.64 0.895,-4.64 ; 0.895,-2.98 6.895,-2.98 6.895,-2.1 0.895,-2.1 ; 0.895,-0.44 6.895,-0.44 6.895,0.44 0.895,0.44 ; 0.895,2.1 6.895,2.1 6.895,2.98 0.895,2.98 ; 0.895,4.64 6.895,4.64 6.895,5.52 0.895,5.52 ; 0.895,7.18 6.895,7.18 6.895,8.06 0.895,8.06 ; 0.895,9.72 6.895,9.72 6.895,10.6 0.895,10.6 ; 0.895,12.26 6.895,12.26 6.895,13.14 0.895,13.14 ; 0.895,14.8 6.895,14.8 6.895,15.68 0.895,15.68 ; 0.895,17.34 6.895,17.34 6.895,18.22 0.895,18.22 ; -1.845,-21.71 0.895,-21.71 0.895,21.71 -1.845,21.71 -1.845,-21.71 ; 0.895,19.88 6.895,19.88 6.895,20.76 0.895,20.76 0.895,19.88
Top Assembly:
  region: 0.775,-21.59 -1.725,-21.59 -1.725,20.965 -1.1,21.59 0.775,21.59
  lines w0.254: -1.725,-20.64 -6.425,-20.64 -6.425,-20 -1.725,-20 ; -1.725,-18.1 -6.425,-18.1 -6.425,-17.46 -1.725,-17.46 ; -1.725,-15.56 -6.425,-15.56 -6.425,-14.92 -1.725,-14.92 ; -1.725,-13.02 -6.425,-13.02 -6.425,-12.38 -1.725,-12.38 ; -1.725,-10.48 -6.425,-10.48 -6.425,-9.84 -1.725,-9.84 ; -1.725,-7.94 -6.425,-7.94 -6.425,-7.3 -1.725,-7.3 ; -1.725,-5.4 -6.425,-5.4 -6.425,-4.76 -1.725,-4.76 ; -1.725,-2.86 -6.425,-2.86 -6.425,-2.22 -1.725,-2.22 ; -1.725,-0.32 -6.425,-0.32 -6.425,0.32 -1.725,0.32 ; -1.725,2.22 -6.425,2.22 -6.425,2.86 -1.725,2.86 ; -1.725,4.76 -6.425,4.76 -6.425,5.4 -1.725,5.4 ; -1.725,7.3 -6.425,7.3 -6.425,7.94 -1.725,7.94 ; -1.725,9.84 -6.425,9.84 -6.425,10.48 -1.725,10.48 ; -1.725,12.38 -6.425,12.38 -6.425,13.02 -1.725,13.02 ; -1.725,14.92 -6.425,14.92 -6.425,15.56 -1.725,15.56 ; -1.725,17.46 -6.425,17.46 -6.425,18.1 -1.725,18.1 ; -1.725,20 -6.425,20 -6.425,20.64 -1.725,20.64 ; 0.775,-20.64 6.775,-20.64 6.775,-20 0.775,-20 ; 0.775,-18.1 6.775,-18.1 6.775,-17.46 0.775,-17.46 ; 0.775,-15.56 6.775,-15.56 6.775,-14.92 0.775,-14.92 ; 0.775,-13.02 6.775,-13.02 6.775,-12.38 0.775,-12.38 ; 0.775,-10.48 6.775,-10.48 6.775,-9.84 0.775,-9.84 ; 0.775,-7.94 6.775,-7.94 6.775,-7.3 0.775,-7.3 ; 0.775,-5.4 6.775,-5.4 6.775,-4.76 0.775,-4.76 ; 0.775,-2.86 6.775,-2.86 6.775,-2.22 0.775,-2.22 ; 0.775,-0.32 6.775,-0.32 6.775,0.32 0.775,0.32 ; 0.775,2.22 6.775,2.22 6.775,2.86 0.775,2.86 ; 0.775,4.76 6.775,4.76 6.775,5.4 0.775,5.4 ; 0.775,7.3 6.775,7.3 6.775,7.94 0.775,7.94 ; 0.775,9.84 6.775,9.84 6.775,10.48 0.775,10.48 ; 0.775,12.38 6.775,12.38 6.775,13.02 0.775,13.02 ; 0.775,14.92 6.775,14.92 6.775,15.56 0.775,15.56 ; 0.775,17.46 6.775,17.46 6.775,18.1 0.775,18.1 ; 0.775,20 6.775,20 6.775,20.64 0.775,20.64
  text "'.Designator'" at 0.36,-4.047 h1
Top Courtyard:
  lines w0.254: -7.28,-22.09 7.28,-22.09 7.28,22.09 -7.28,22.09 -7.28,-22.09
Top Designator:
  text ".Designator" at -7.618,-0.508 h1.52

## Harwin_M20-89018xx_1x18_P2.54mm_Horizontal [mm]
pads (18):
  rrect25% 2.5x1 smd: 1(-5.525,21.59) 2(-5.525,19.05) 3(-5.525,16.51) 4(-5.525,13.97) 5(-5.525,11.43) 6(-5.525,8.89) 7(-5.525,6.35) 8(-5.525,3.81) 9(-5.525,1.27) 10(-5.525,-1.27) 11(-5.525,-3.81) 12(-5.525,-6.35) 13(-5.525,-8.89) 14(-5.525,-11.43) 15(-5.525,-13.97) 16(-5.525,-16.51) 17(-5.525,-19.05) 18(-5.525,-21.59)
F.SilkS:
  region: -5.525,22.41 -5.865,22.88 -5.185,22.88
  lines w0.254: -3.955,-22.03 -1.845,-22.03 ; -3.955,-21.15 -1.845,-21.15 ; -3.955,-19.49 -1.845,-19.49 ; -3.955,-18.61 -1.845,-18.61 ; -3.955,-16.95 -1.845,-16.95 ; -3.955,-16.07 -1.845,-16.07 ; -3.955,-14.41 -1.845,-14.41 ; -3.955,-13.53 -1.845,-13.53 ; -3.955,-11.87 -1.845,-11.87 ; -3.955,-10.99 -1.845,-10.99 ; -3.955,-9.33 -1.845,-9.33 ; -3.955,-8.45 -1.845,-8.45 ; -3.955,-6.79 -1.845,-6.79 ; -3.955,-5.91 -1.845,-5.91 ; -3.955,-4.25 -1.845,-4.25 ; -3.955,-3.37 -1.845,-3.37 ; -3.955,-1.71 -1.845,-1.71 ; -3.955,-0.83 -1.845,-0.83 ; -3.955,0.83 -1.845,0.83 ; -3.955,1.71 -1.845,1.71 ; -3.955,3.37 -1.845,3.37 ; -3.955,4.25 -1.845,4.25 ; -3.955,5.91 -1.845,5.91 ; -3.955,6.79 -1.845,6.79 ; -3.955,8.45 -1.845,8.45 ; -3.955,9.33 -1.845,9.33 ; -3.955,10.99 -1.845,10.99 ; -3.955,11.87 -1.845,11.87 ; -3.955,13.53 -1.845,13.53 ; -3.955,14.41 -1.845,14.41 ; -3.955,16.07 -1.845,16.07 ; -3.955,16.95 -1.845,16.95 ; -3.955,18.61 -1.845,18.61 ; -3.955,19.49 -1.845,19.49 ; -3.955,21.15 -1.845,21.15 ; -3.955,22.03 -1.845,22.03 ; 0.895,-22.03 6.895,-22.03 6.895,-21.15 0.895,-21.15 ; 0.895,-19.49 6.895,-19.49 6.895,-18.61 0.895,-18.61 ; 0.895,-16.95 6.895,-16.95 6.895,-16.07 0.895,-16.07 ; 0.895,-14.41 6.895,-14.41 6.895,-13.53 0.895,-13.53 ; 0.895,-11.87 6.895,-11.87 6.895,-10.99 0.895,-10.99 ; 0.895,-9.33 6.895,-9.33 6.895,-8.45 0.895,-8.45 ; 0.895,-6.79 6.895,-6.79 6.895,-5.91 0.895,-5.91 ; 0.895,-4.25 6.895,-4.25 6.895,-3.37 0.895,-3.37 ; 0.895,-1.71 6.895,-1.71 6.895,-0.83 0.895,-0.83 ; 0.895,0.83 6.895,0.83 6.895,1.71 0.895,1.71 ; 0.895,3.37 6.895,3.37 6.895,4.25 0.895,4.25 ; 0.895,5.91 6.895,5.91 6.895,6.79 0.895,6.79 ; 0.895,8.45 6.895,8.45 6.895,9.33 0.895,9.33 ; 0.895,10.99 6.895,10.99 6.895,11.87 0.895,11.87 ; 0.895,13.53 6.895,13.53 6.895,14.41 0.895,14.41 ; 0.895,16.07 6.895,16.07 6.895,16.95 0.895,16.95 ; 0.895,18.61 6.895,18.61 6.895,19.49 0.895,19.49 ; -1.845,-22.98 0.895,-22.98 0.895,22.98 -1.845,22.98 -1.845,-22.98 ; 0.895,21.15 6.895,21.15 6.895,22.03 0.895,22.03 0.895,21.15
Top Assembly:
  region: 0.775,-22.86 -1.725,-22.86 -1.725,22.235 -1.1,22.86 0.775,22.86
  lines w0.254: -1.725,-21.91 -6.425,-21.91 -6.425,-21.27 -1.725,-21.27 ; -1.725,-19.37 -6.425,-19.37 -6.425,-18.73 -1.725,-18.73 ; -1.725,-16.83 -6.425,-16.83 -6.425,-16.19 -1.725,-16.19 ; -1.725,-14.29 -6.425,-14.29 -6.425,-13.65 -1.725,-13.65 ; -1.725,-11.75 -6.425,-11.75 -6.425,-11.11 -1.725,-11.11 ; -1.725,-9.21 -6.425,-9.21 -6.425,-8.57 -1.725,-8.57 ; -1.725,-6.67 -6.425,-6.67 -6.425,-6.03 -1.725,-6.03 ; -1.725,-4.13 -6.425,-4.13 -6.425,-3.49 -1.725,-3.49 ; -1.725,-1.59 -6.425,-1.59 -6.425,-0.95 -1.725,-0.95 ; -1.725,0.95 -6.425,0.95 -6.425,1.59 -1.725,1.59 ; -1.725,3.49 -6.425,3.49 -6.425,4.13 -1.725,4.13 ; -1.725,6.03 -6.425,6.03 -6.425,6.67 -1.725,6.67 ; -1.725,8.57 -6.425,8.57 -6.425,9.21 -1.725,9.21 ; -1.725,11.11 -6.425,11.11 -6.425,11.75 -1.725,11.75 ; -1.725,13.65 -6.425,13.65 -6.425,14.29 -1.725,14.29 ; -1.725,16.19 -6.425,16.19 -6.425,16.83 -1.725,16.83 ; -1.725,18.73 -6.425,18.73 -6.425,19.37 -1.725,19.37 ; -1.725,21.27 -6.425,21.27 -6.425,21.91 -1.725,21.91 ; 0.775,-21.91 6.775,-21.91 6.775,-21.27 0.775,-21.27 ; 0.775,-19.37 6.775,-19.37 6.775,-18.73 0.775,-18.73 ; 0.775,-16.83 6.775,-16.83 6.775,-16.19 0.775,-16.19 ; 0.775,-14.29 6.775,-14.29 6.775,-13.65 0.775,-13.65 ; 0.775,-11.75 6.775,-11.75 6.775,-11.11 0.775,-11.11 ; 0.775,-9.21 6.775,-9.21 6.775,-8.57 0.775,-8.57 ; 0.775,-6.67 6.775,-6.67 6.775,-6.03 0.775,-6.03 ; 0.775,-4.13 6.775,-4.13 6.775,-3.49 0.775,-3.49 ; 0.775,-1.59 6.775,-1.59 6.775,-0.95 0.775,-0.95 ; 0.775,0.95 6.775,0.95 6.775,1.59 0.775,1.59 ; 0.775,3.49 6.775,3.49 6.775,4.13 0.775,4.13 ; 0.775,6.03 6.775,6.03 6.775,6.67 0.775,6.67 ; 0.775,8.57 6.775,8.57 6.775,9.21 0.775,9.21 ; 0.775,11.11 6.775,11.11 6.775,11.75 0.775,11.75 ; 0.775,13.65 6.775,13.65 6.775,14.29 0.775,14.29 ; 0.775,16.19 6.775,16.19 6.775,16.83 0.775,16.83 ; 0.775,18.73 6.775,18.73 6.775,19.37 0.775,19.37 ; 0.775,21.27 6.775,21.27 6.775,21.91 0.775,21.91
  text "'.Designator'" at 0.36,-4.047 h1
Top Courtyard:
  lines w0.254: -7.28,-23.36 7.28,-23.36 7.28,23.36 -7.28,23.36 -7.28,-23.36
Top Designator:
  text ".Designator" at -7.618,-0.508 h1.52

## Harwin_M20-89019xx_1x19_P2.54mm_Horizontal [mm]
pads (19):
  rrect25% 2.5x1 smd: 1(-5.525,22.86) 2(-5.525,20.32) 3(-5.525,17.78) 4(-5.525,15.24) 5(-5.525,12.7) 6(-5.525,10.16) 7(-5.525,7.62) 8(-5.525,5.08) 9(-5.525,2.54) 10(-5.525,0) 11(-5.525,-2.54) 12(-5.525,-5.08) 13(-5.525,-7.62) 14(-5.525,-10.16) 15(-5.525,-12.7) 16(-5.525,-15.24) 17(-5.525,-17.78) 18(-5.525,-20.32) 19(-5.525,-22.86)
F.SilkS:
  region: -5.525,23.68 -5.865,24.15 -5.185,24.15
  lines w0.254: -3.955,-23.3 -1.845,-23.3 ; -3.955,-22.42 -1.845,-22.42 ; -3.955,-20.76 -1.845,-20.76 ; -3.955,-19.88 -1.845,-19.88 ; -3.955,-18.22 -1.845,-18.22 ; -3.955,-17.34 -1.845,-17.34 ; -3.955,-15.68 -1.845,-15.68 ; -3.955,-14.8 -1.845,-14.8 ; -3.955,-13.14 -1.845,-13.14 ; -3.955,-12.26 -1.845,-12.26 ; -3.955,-10.6 -1.845,-10.6 ; -3.955,-9.72 -1.845,-9.72 ; -3.955,-8.06 -1.845,-8.06 ; -3.955,-7.18 -1.845,-7.18 ; -3.955,-5.52 -1.845,-5.52 ; -3.955,-4.64 -1.845,-4.64 ; -3.955,-2.98 -1.845,-2.98 ; -3.955,-2.1 -1.845,-2.1 ; -3.955,-0.44 -1.845,-0.44 ; -3.955,0.44 -1.845,0.44 ; -3.955,2.1 -1.845,2.1 ; -3.955,2.98 -1.845,2.98 ; -3.955,4.64 -1.845,4.64 ; -3.955,5.52 -1.845,5.52 ; -3.955,7.18 -1.845,7.18 ; -3.955,8.06 -1.845,8.06 ; -3.955,9.72 -1.845,9.72 ; -3.955,10.6 -1.845,10.6 ; -3.955,12.26 -1.845,12.26 ; -3.955,13.14 -1.845,13.14 ; -3.955,14.8 -1.845,14.8 ; -3.955,15.68 -1.845,15.68 ; -3.955,17.34 -1.845,17.34 ; -3.955,18.22 -1.845,18.22 ; -3.955,19.88 -1.845,19.88 ; -3.955,20.76 -1.845,20.76 ; -3.955,22.42 -1.845,22.42 ; -3.955,23.3 -1.845,23.3 ; 0.895,-23.3 6.895,-23.3 6.895,-22.42 0.895,-22.42 ; 0.895,-20.76 6.895,-20.76 6.895,-19.88 0.895,-19.88 ; 0.895,-18.22 6.895,-18.22 6.895,-17.34 0.895,-17.34 ; 0.895,-15.68 6.895,-15.68 6.895,-14.8 0.895,-14.8 ; 0.895,-13.14 6.895,-13.14 6.895,-12.26 0.895,-12.26 ; 0.895,-10.6 6.895,-10.6 6.895,-9.72 0.895,-9.72 ; 0.895,-8.06 6.895,-8.06 6.895,-7.18 0.895,-7.18 ; 0.895,-5.52 6.895,-5.52 6.895,-4.64 0.895,-4.64 ; 0.895,-2.98 6.895,-2.98 6.895,-2.1 0.895,-2.1 ; 0.895,-0.44 6.895,-0.44 6.895,0.44 0.895,0.44 ; 0.895,2.1 6.895,2.1 6.895,2.98 0.895,2.98 ; 0.895,4.64 6.895,4.64 6.895,5.52 0.895,5.52 ; 0.895,7.18 6.895,7.18 6.895,8.06 0.895,8.06 ; 0.895,9.72 6.895,9.72 6.895,10.6 0.895,10.6 ; 0.895,12.26 6.895,12.26 6.895,13.14 0.895,13.14 ; 0.895,14.8 6.895,14.8 6.895,15.68 0.895,15.68 ; 0.895,17.34 6.895,17.34 6.895,18.22 0.895,18.22 ; 0.895,19.88 6.895,19.88 6.895,20.76 0.895,20.76 ; -1.845,-24.25 0.895,-24.25 0.895,24.25 -1.845,24.25 -1.845,-24.25 ; 0.895,22.42 6.895,22.42 6.895,23.3 0.895,23.3 0.895,22.42
Top Assembly:
  region: 0.775,-24.13 -1.725,-24.13 -1.725,23.505 -1.1,24.13 0.775,24.13
  lines w0.254: -1.725,-23.18 -6.425,-23.18 -6.425,-22.54 -1.725,-22.54 ; -1.725,-20.64 -6.425,-20.64 -6.425,-20 -1.725,-20 ; -1.725,-18.1 -6.425,-18.1 -6.425,-17.46 -1.725,-17.46 ; -1.725,-15.56 -6.425,-15.56 -6.425,-14.92 -1.725,-14.92 ; -1.725,-13.02 -6.425,-13.02 -6.425,-12.38 -1.725,-12.38 ; -1.725,-10.48 -6.425,-10.48 -6.425,-9.84 -1.725,-9.84 ; -1.725,-7.94 -6.425,-7.94 -6.425,-7.3 -1.725,-7.3 ; -1.725,-5.4 -6.425,-5.4 -6.425,-4.76 -1.725,-4.76 ; -1.725,-2.86 -6.425,-2.86 -6.425,-2.22 -1.725,-2.22 ; -1.725,-0.32 -6.425,-0.32 -6.425,0.32 -1.725,0.32 ; -1.725,2.22 -6.425,2.22 -6.425,2.86 -1.725,2.86 ; -1.725,4.76 -6.425,4.76 -6.425,5.4 -1.725,5.4 ; -1.725,7.3 -6.425,7.3 -6.425,7.94 -1.725,7.94 ; -1.725,9.84 -6.425,9.84 -6.425,10.48 -1.725,10.48 ; -1.725,12.38 -6.425,12.38 -6.425,13.02 -1.725,13.02 ; -1.725,14.92 -6.425,14.92 -6.425,15.56 -1.725,15.56 ; -1.725,17.46 -6.425,17.46 -6.425,18.1 -1.725,18.1 ; -1.725,20 -6.425,20 -6.425,20.64 -1.725,20.64 ; -1.725,22.54 -6.425,22.54 -6.425,23.18 -1.725,23.18 ; 0.775,-23.18 6.775,-23.18 6.775,-22.54 0.775,-22.54 ; 0.775,-20.64 6.775,-20.64 6.775,-20 0.775,-20 ; 0.775,-18.1 6.775,-18.1 6.775,-17.46 0.775,-17.46 ; 0.775,-15.56 6.775,-15.56 6.775,-14.92 0.775,-14.92 ; 0.775,-13.02 6.775,-13.02 6.775,-12.38 0.775,-12.38 ; 0.775,-10.48 6.775,-10.48 6.775,-9.84 0.775,-9.84 ; 0.775,-7.94 6.775,-7.94 6.775,-7.3 0.775,-7.3 ; 0.775,-5.4 6.775,-5.4 6.775,-4.76 0.775,-4.76 ; 0.775,-2.86 6.775,-2.86 6.775,-2.22 0.775,-2.22 ; 0.775,-0.32 6.775,-0.32 6.775,0.32 0.775,0.32 ; 0.775,2.22 6.775,2.22 6.775,2.86 0.775,2.86 ; 0.775,4.76 6.775,4.76 6.775,5.4 0.775,5.4 ; 0.775,7.3 6.775,7.3 6.775,7.94 0.775,7.94 ; 0.775,9.84 6.775,9.84 6.775,10.48 0.775,10.48 ; 0.775,12.38 6.775,12.38 6.775,13.02 0.775,13.02 ; 0.775,14.92 6.775,14.92 6.775,15.56 0.775,15.56 ; 0.775,17.46 6.775,17.46 6.775,18.1 0.775,18.1 ; 0.775,20 6.775,20 6.775,20.64 0.775,20.64 ; 0.775,22.54 6.775,22.54 6.775,23.18 0.775,23.18
  text "'.Designator'" at 0.36,-4.047 h1
Top Courtyard:
  lines w0.254: -7.28,-24.63 7.28,-24.63 7.28,24.63 -7.28,24.63 -7.28,-24.63
Top Designator:
  text ".Designator" at -7.618,-0.508 h1.52

## Harwin_M20-89020xx_1x20_P2.54mm_Horizontal [mm]
pads (20):
  rrect25% 2.5x1 smd: 1(-5.525,24.13) 2(-5.525,21.59) 3(-5.525,19.05) 4(-5.525,16.51) 5(-5.525,13.97) 6(-5.525,11.43) 7(-5.525,8.89) 8(-5.525,6.35) 9(-5.525,3.81) 10(-5.525,1.27) 11(-5.525,-1.27) 12(-5.525,-3.81) 13(-5.525,-6.35) 14(-5.525,-8.89) 15(-5.525,-11.43) 16(-5.525,-13.97) 17(-5.525,-16.51) 18(-5.525,-19.05) 19(-5.525,-21.59) 20(-5.525,-24.13)
F.SilkS:
  region: -5.525,24.95 -5.865,25.42 -5.185,25.42
  lines w0.254: -3.955,-24.57 -1.845,-24.57 ; -3.955,-23.69 -1.845,-23.69 ; -3.955,-22.03 -1.845,-22.03 ; -3.955,-21.15 -1.845,-21.15 ; -3.955,-19.49 -1.845,-19.49 ; -3.955,-18.61 -1.845,-18.61 ; -3.955,-16.95 -1.845,-16.95 ; -3.955,-16.07 -1.845,-16.07 ; -3.955,-14.41 -1.845,-14.41 ; -3.955,-13.53 -1.845,-13.53 ; -3.955,-11.87 -1.845,-11.87 ; -3.955,-10.99 -1.845,-10.99 ; -3.955,-9.33 -1.845,-9.33 ; -3.955,-8.45 -1.845,-8.45 ; -3.955,-6.79 -1.845,-6.79 ; -3.955,-5.91 -1.845,-5.91 ; -3.955,-4.25 -1.845,-4.25 ; -3.955,-3.37 -1.845,-3.37 ; -3.955,-1.71 -1.845,-1.71 ; -3.955,-0.83 -1.845,-0.83 ; -3.955,0.83 -1.845,0.83 ; -3.955,1.71 -1.845,1.71 ; -3.955,3.37 -1.845,3.37 ; -3.955,4.25 -1.845,4.25 ; -3.955,5.91 -1.845,5.91 ; -3.955,6.79 -1.845,6.79 ; -3.955,8.45 -1.845,8.45 ; -3.955,9.33 -1.845,9.33 ; -3.955,10.99 -1.845,10.99 ; -3.955,11.87 -1.845,11.87 ; -3.955,13.53 -1.845,13.53 ; -3.955,14.41 -1.845,14.41 ; -3.955,16.07 -1.845,16.07 ; -3.955,16.95 -1.845,16.95 ; -3.955,18.61 -1.845,18.61 ; -3.955,19.49 -1.845,19.49 ; -3.955,21.15 -1.845,21.15 ; -3.955,22.03 -1.845,22.03 ; -3.955,23.69 -1.845,23.69 ; -3.955,24.57 -1.845,24.57 ; 0.895,-24.57 6.895,-24.57 6.895,-23.69 0.895,-23.69 ; 0.895,-22.03 6.895,-22.03 6.895,-21.15 0.895,-21.15 ; 0.895,-19.49 6.895,-19.49 6.895,-18.61 0.895,-18.61 ; 0.895,-16.95 6.895,-16.95 6.895,-16.07 0.895,-16.07 ; 0.895,-14.41 6.895,-14.41 6.895,-13.53 0.895,-13.53 ; 0.895,-11.87 6.895,-11.87 6.895,-10.99 0.895,-10.99 ; 0.895,-9.33 6.895,-9.33 6.895,-8.45 0.895,-8.45 ; 0.895,-6.79 6.895,-6.79 6.895,-5.91 0.895,-5.91 ; 0.895,-4.25 6.895,-4.25 6.895,-3.37 0.895,-3.37 ; 0.895,-1.71 6.895,-1.71 6.895,-0.83 0.895,-0.83 ; 0.895,0.83 6.895,0.83 6.895,1.71 0.895,1.71 ; 0.895,3.37 6.895,3.37 6.895,4.25 0.895,4.25 ; 0.895,5.91 6.895,5.91 6.895,6.79 0.895,6.79 ; 0.895,8.45 6.895,8.45 6.895,9.33 0.895,9.33 ; 0.895,10.99 6.895,10.99 6.895,11.87 0.895,11.87 ; 0.895,13.53 6.895,13.53 6.895,14.41 0.895,14.41 ; 0.895,16.07 6.895,16.07 6.895,16.95 0.895,16.95 ; 0.895,18.61 6.895,18.61 6.895,19.49 0.895,19.49 ; 0.895,21.15 6.895,21.15 6.895,22.03 0.895,22.03 ; -1.845,-25.52 0.895,-25.52 0.895,25.52 -1.845,25.52 -1.845,-25.52 ; 0.895,23.69 6.895,23.69 6.895,24.57 0.895,24.57 0.895,23.69
Top Assembly:
  region: 0.775,-25.4 -1.725,-25.4 -1.725,24.775 -1.1,25.4 0.775,25.4
  lines w0.254: -1.725,-24.45 -6.425,-24.45 -6.425,-23.81 -1.725,-23.81 ; -1.725,-21.91 -6.425,-21.91 -6.425,-21.27 -1.725,-21.27 ; -1.725,-19.37 -6.425,-19.37 -6.425,-18.73 -1.725,-18.73 ; -1.725,-16.83 -6.425,-16.83 -6.425,-16.19 -1.725,-16.19 ; -1.725,-14.29 -6.425,-14.29 -6.425,-13.65 -1.725,-13.65 ; -1.725,-11.75 -6.425,-11.75 -6.425,-11.11 -1.725,-11.11 ; -1.725,-9.21 -6.425,-9.21 -6.425,-8.57 -1.725,-8.57 ; -1.725,-6.67 -6.425,-6.67 -6.425,-6.03 -1.725,-6.03 ; -1.725,-4.13 -6.425,-4.13 -6.425,-3.49 -1.725,-3.49 ; -1.725,-1.59 -6.425,-1.59 -6.425,-0.95 -1.725,-0.95 ; -1.725,0.95 -6.425,0.95 -6.425,1.59 -1.725,1.59 ; -1.725,3.49 -6.425,3.49 -6.425,4.13 -1.725,4.13 ; -1.725,6.03 -6.425,6.03 -6.425,6.67 -1.725,6.67 ; -1.725,8.57 -6.425,8.57 -6.425,9.21 -1.725,9.21 ; -1.725,11.11 -6.425,11.11 -6.425,11.75 -1.725,11.75 ; -1.725,13.65 -6.425,13.65 -6.425,14.29 -1.725,14.29 ; -1.725,16.19 -6.425,16.19 -6.425,16.83 -1.725,16.83 ; -1.725,18.73 -6.425,18.73 -6.425,19.37 -1.725,19.37 ; -1.725,21.27 -6.425,21.27 -6.425,21.91 -1.725,21.91 ; -1.725,23.81 -6.425,23.81 -6.425,24.45 -1.725,24.45 ; 0.775,-24.45 6.775,-24.45 6.775,-23.81 0.775,-23.81 ; 0.775,-21.91 6.775,-21.91 6.775,-21.27 0.775,-21.27 ; 0.775,-19.37 6.775,-19.37 6.775,-18.73 0.775,-18.73 ; 0.775,-16.83 6.775,-16.83 6.775,-16.19 0.775,-16.19 ; 0.775,-14.29 6.775,-14.29 6.775,-13.65 0.775,-13.65 ; 0.775,-11.75 6.775,-11.75 6.775,-11.11 0.775,-11.11 ; 0.775,-9.21 6.775,-9.21 6.775,-8.57 0.775,-8.57 ; 0.775,-6.67 6.775,-6.67 6.775,-6.03 0.775,-6.03 ; 0.775,-4.13 6.775,-4.13 6.775,-3.49 0.775,-3.49 ; 0.775,-1.59 6.775,-1.59 6.775,-0.95 0.775,-0.95 ; 0.775,0.95 6.775,0.95 6.775,1.59 0.775,1.59 ; 0.775,3.49 6.775,3.49 6.775,4.13 0.775,4.13 ; 0.775,6.03 6.775,6.03 6.775,6.67 0.775,6.67 ; 0.775,8.57 6.775,8.57 6.775,9.21 0.775,9.21 ; 0.775,11.11 6.775,11.11 6.775,11.75 0.775,11.75 ; 0.775,13.65 6.775,13.65 6.775,14.29 0.775,14.29 ; 0.775,16.19 6.775,16.19 6.775,16.83 0.775,16.83 ; 0.775,18.73 6.775,18.73 6.775,19.37 0.775,19.37 ; 0.775,21.27 6.775,21.27 6.775,21.91 0.775,21.91 ; 0.775,23.81 6.775,23.81 6.775,24.45 0.775,24.45
  text "'.Designator'" at 0.36,-4.047 h1
Top Courtyard:
  lines w0.254: -7.28,-25.9 7.28,-25.9 7.28,25.9 -7.28,25.9 -7.28,-25.9
Top Designator:
  text ".Designator" at -7.618,-0.508 h1.52

## Harwin_M20-7810245_2x02_P2.54mm_Vertical [mm]
pads (9):
  rrect25% 1.78x1.02 smd: 1(-2.91,1.27) 2(-2.91,-1.27) 3(2.91,1.27) 4(2.91,-1.27)
  round 1.02 hole 1.02: Un1(-1.27,1.27) Un2(-1.27,-1.27) Un4(1.27,1.27) Un5(1.27,-1.27)
  round 1.8 hole 1.8: Un3(0,0)
F.SilkS:
  region: -3.33,2.04 -3.67,2.51 -2.99,2.51
  lines w0.254: -2.65,-1.95 -2.65,-2.65 2.65,-2.65 2.65,-1.95 ; -2.65,1.95 -2.65,2.65 2.65,2.65 2.65,1.95
Top Assembly:
  lines w0.254: -2.54,0.87 -1.9,1.27 -2.54,1.67 ; -2.54,-2.54 2.54,-2.54 2.54,2.54 -2.54,2.54 -2.54,-2.54
  text "'.Designator'" at -4.047,-0.84 h1
Top Courtyard:
  lines w0.254: -4.3,-3.04 4.3,-3.04 4.3,3.04 -4.3,3.04 -4.3,-3.04
Top Designator:
  text ".Designator" at -7.618,-0.508 h1.52

## Harwin_M20-7810345_2x03_P2.54mm_Vertical [mm]
pads (14):
  rrect25% 1.78x1.02 smd: 1(-2.91,2.54) 2(-2.91,0) 3(-2.91,-2.54) 4(2.91,2.54) 5(2.91,0) 6(2.91,-2.54)
  round 1.02 hole 1.02: Un1(-1.27,2.54) Un2(-1.27,0) Un3(-1.27,-2.54) Un6(1.27,2.54) Un7(1.27,0) Un8(1.27,-2.54)
  round 1.8 hole 1.8: Un4(0,1.27) Un5(0,-1.27)
F.SilkS:
  region: -3.33,3.31 -3.67,3.78 -2.99,3.78
  lines w0.254: -2.65,-3.22 -2.65,-3.92 2.65,-3.92 2.65,-3.22 ; -2.65,3.22 -2.65,3.92 2.65,3.92 2.65,3.22
Top Assembly:
  lines w0.254: -2.54,2.14 -1.9,2.54 -2.54,2.94 ; -2.54,-3.81 2.54,-3.81 2.54,3.81 -2.54,3.81 -2.54,-3.81
  text "'.Designator'" at -4.047,-0.84 h1
Top Courtyard:
  lines w0.254: -4.3,-4.31 4.3,-4.31 4.3,4.31 -4.3,4.31 -4.3,-4.31
Top Designator:
  text ".Designator" at -7.618,-0.508 h1.52

## Harwin_M20-7810445_2x04_P2.54mm_Vertical [mm]
pads (18):
  rrect25% 1.78x1.02 smd: 1(-2.91,3.81) 2(-2.91,1.27) 3(-2.91,-1.27) 4(-2.91,-3.81) 5(2.91,3.81) 6(2.91,1.27) 7(2.91,-1.27) 8(2.91,-3.81)
  round 1.02 hole 1.02: Un1(-1.27,3.81) Un2(-1.27,1.27) Un3(-1.27,-1.27) Un4(-1.27,-3.81) Un7(1.27,3.81) Un8(1.27,1.27) Un9(1.27,-1.27) Un10(1.27,-3.81)
  round 1.8 hole 1.8: Un5(0,2.54) Un6(0,-2.54)
F.SilkS:
  region: -3.33,4.58 -3.67,5.05 -2.99,5.05
  lines w0.254: -2.65,-4.49 -2.65,-5.19 2.65,-5.19 2.65,-4.49 ; -2.65,4.49 -2.65,5.19 2.65,5.19 2.65,4.49
Top Assembly:
  lines w0.254: -2.54,3.41 -1.9,3.81 -2.54,4.21 ; -2.54,-5.08 2.54,-5.08 2.54,5.08 -2.54,5.08 -2.54,-5.08
  text "'.Designator'" at -4.047,-0.84 h1
Top Courtyard:
  lines w0.254: -4.3,-5.58 4.3,-5.58 4.3,5.58 -4.3,5.58 -4.3,-5.58
Top Designator:
  text ".Designator" at -7.618,-0.508 h1.52

## Harwin_M20-7810545_2x05_P2.54mm_Vertical [mm]
pads (22):
  rrect25% 1.78x1.02 smd: 1(-2.91,5.08) 2(-2.91,2.54) 3(-2.91,0) 4(-2.91,-2.54) 5(-2.91,-5.08) 6(2.91,5.08) 7(2.91,2.54) 8(2.91,0) 9(2.91,-2.54) 10(2.91,-5.08)
  round 1.02 hole 1.02: Un1(-1.27,5.08) Un2(-1.27,2.54) Un3(-1.27,0) Un4(-1.27,-2.54) Un5(-1.27,-5.08) Un8(1.27,5.08) Un9(1.27,2.54) Un10(1.27,0) Un11(1.27,-2.54) Un12(1.27,-5.08)
  round 1.8 hole 1.8: Un6(0,3.81) Un7(0,-3.81)
F.SilkS:
  region: -3.33,5.85 -3.67,6.32 -2.99,6.32
  lines w0.254: -2.65,-5.76 -2.65,-6.46 2.65,-6.46 2.65,-5.76 ; -2.65,5.76 -2.65,6.46 2.65,6.46 2.65,5.76
Top Assembly:
  lines w0.254: -2.54,4.68 -1.9,5.08 -2.54,5.48 ; -2.54,-6.35 2.54,-6.35 2.54,6.35 -2.54,6.35 -2.54,-6.35
  text "'.Designator'" at -4.047,-0.84 h1
Top Courtyard:
  lines w0.254: -4.3,-6.85 4.3,-6.85 4.3,6.85 -4.3,6.85 -4.3,-6.85
Top Designator:
  text ".Designator" at -7.618,-0.508 h1.52

## Harwin_M20-7810645_2x06_P2.54mm_Vertical [mm]
pads (26):
  rrect25% 1.78x1.02 smd: 1(-2.91,6.35) 2(-2.91,3.81) 3(-2.91,1.27) 4(-2.91,-1.27) 5(-2.91,-3.81) 6(-2.91,-6.35) 7(2.91,6.35) 8(2.91,3.81) 9(2.91,1.27) 10(2.91,-1.27) 11(2.91,-3.81) 12(2.91,-6.35)
  round 1.02 hole 1.02: Un1(-1.27,6.35) Un2(-1.27,3.81) Un3(-1.27,1.27) Un4(-1.27,-1.27) Un5(-1.27,-3.81) Un6(-1.27,-6.35) Un9(1.27,6.35) Un10(1.27,3.81) Un11(1.27,1.27) Un12(1.27,-1.27) Un13(1.27,-3.81) Un14(1.27,-6.35)
  round 1.8 hole 1.8: Un7(0,5.08) Un8(0,-5.08)
F.SilkS:
  region: -3.33,7.12 -3.67,7.59 -2.99,7.59
  lines w0.254: -2.65,-7.03 -2.65,-7.73 2.65,-7.73 2.65,-7.03 ; -2.65,7.03 -2.65,7.73 2.65,7.73 2.65,7.03
Top Assembly:
  lines w0.254: -2.54,5.95 -1.9,6.35 -2.54,6.75 ; -2.54,-7.62 2.54,-7.62 2.54,7.62 -2.54,7.62 -2.54,-7.62
  text "'.Designator'" at -4.047,-0.84 h1
Top Courtyard:
  lines w0.254: -4.3,-8.12 4.3,-8.12 4.3,8.12 -4.3,8.12 -4.3,-8.12
Top Designator:
  text ".Designator" at -7.618,-0.508 h1.52

## Harwin_M20-7810745_2x07_P2.54mm_Vertical [mm]
pads (30):
  rrect25% 1.78x1.02 smd: 1(-2.91,7.62) 2(-2.91,5.08) 3(-2.91,2.54) 4(-2.91,0) 5(-2.91,-2.54) 6(-2.91,-5.08) 7(-2.91,-7.62) 8(2.91,7.62) 9(2.91,5.08) 10(2.91,2.54) 11(2.91,0) 12(2.91,-2.54) 13(2.91,-5.08) 14(2.91,-7.62)
  round 1.02 hole 1.02: Un1(-1.27,7.62) Un2(-1.27,5.08) Un3(-1.27,2.54) Un4(-1.27,0) Un5(-1.27,-2.54) Un6(-1.27,-5.08) Un7(-1.27,-7.62) Un10(1.27,7.62) Un11(1.27,5.08) Un12(1.27,2.54) Un13(1.27,0) Un14(1.27,-2.54) Un15(1.27,-5.08) Un16(1.27,-7.62)
  round 1.8 hole 1.8: Un8(0,6.35) Un9(0,-6.35)
F.SilkS:
  region: -3.33,8.39 -3.67,8.86 -2.99,8.86
  lines w0.254: -2.65,-8.3 -2.65,-9 2.65,-9 2.65,-8.3 ; -2.65,8.3 -2.65,9 2.65,9 2.65,8.3
Top Assembly:
  lines w0.254: -2.54,7.22 -1.9,7.62 -2.54,8.02 ; -2.54,-8.89 2.54,-8.89 2.54,8.89 -2.54,8.89 -2.54,-8.89
  text "'.Designator'" at -4.047,-0.84 h1
Top Courtyard:
  lines w0.254: -4.3,-9.39 4.3,-9.39 4.3,9.39 -4.3,9.39 -4.3,-9.39
Top Designator:
  text ".Designator" at -7.618,-0.508 h1.52